# EAGLE library part 6201 (library tubes_pmillett)
Dual triode, base 9A (12A*7, etc.)
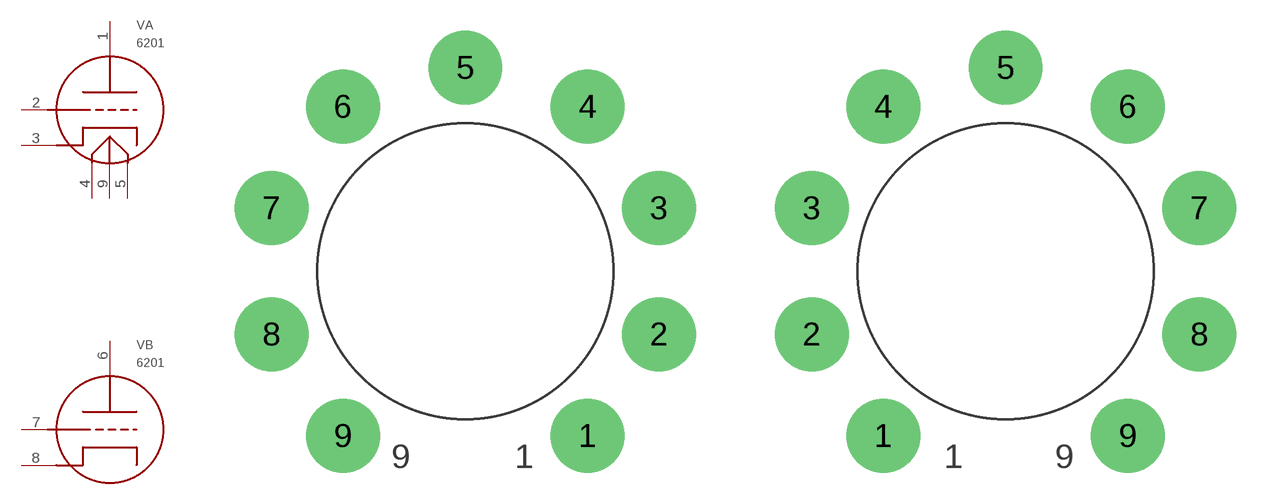
[diagram p184: symbol with the pads of NOVAL_PCB; footprints NOVAL_PCB, NOVAL_BOTTOM_PCB]

Designator prefix V; gates A=TRIODE_9A_A-1 B=TRIODE_9A_B-1

## 6201_TOP  [NOVAL_PCB]
1  A:1  pas
2  A:2  pas
3  A:3  pas
4  A:4  pas
5  A:5  pas
6  B:6  pas
7  B:7  pas
8  B:8  pas
9  A:9  pas

## 6201  [NOVAL_BOTTOM_PCB]
Pads as for NOVAL_PCB

## Footprint NOVAL_PCB (pad centres in mm)
TUBE SOCKET, NOVAL PCB
drill 1.93 pad 3.81: 1 6.299,-8.484; 2 9.982,-3.251; 3 9.982,3.251; 4 6.299,8.484; 5 0,10.49; 6 -6.299,8.484; 7 -9.982,3.251; 8 -9.982,-3.251; 9 -6.299,-8.484

## Footprint NOVAL_BOTTOM_PCB (pad centres in mm)
Standard 9-pin socket (Chinese ceramic, Belton, etc.), mounted bottom side
drill 1.93 pad 3.81: 1 -6.299,-8.484; 2 -9.982,-3.251; 3 -9.982,3.251; 4 -6.299,8.484; 5 0,10.49; 6 6.299,8.484; 7 9.982,3.251; 8 9.982,-3.251; 9 6.299,-8.484